# EAGLE library part LM20145MH/NOPB (library ds_ic_vreg)
LM20145/LM20145Q 5A, PowerWise® Adjustable Frequency Synchronous Buck Regulator
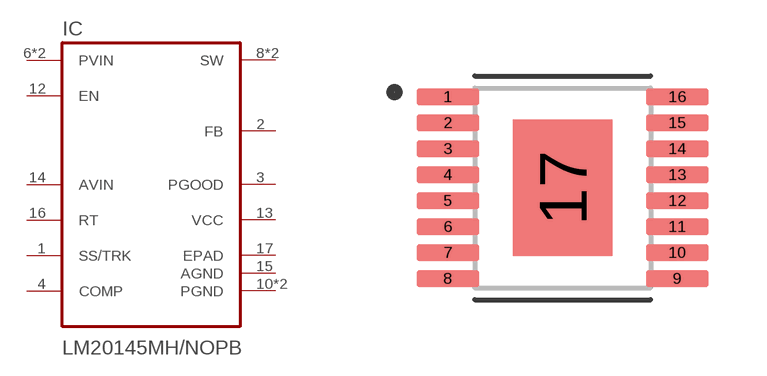
[diagram p5: symbol with the pads of POWER-TSSOP-16; footprint POWER-TSSOP-16]

Designator prefix IC

## LM20145MH/NOPB (DATASHEET: https://www.ti.com/lit/ds/symlink/lm20145.pdf?HQS=dis-dk-null-digikeymode-dsf-pf-null-wwe&ts=1760126480041&ref_url=https%253A%252F%252Fwww.ti.com%252Fgeneral%252Fdocs%252Fsuppproductinfo.tsp%253FdistId%253D10%2526gotoUrl%253Dhttps%253A%252F%252Fwww.ti.com%252Flit%252Fgpn%252Flm20145; DESCRIPTION: -40℃~+125℃@(TJ) 1 2.95V~5.5V 5A 750kHz 800mV~4.68V Adjustable Buck Buck Built-In Yes HTSSOP-16-EP DC-DC Converters ROHS; LCSC_PART: C202211; MANUFACTURER: Texas Instruments; MPN: LM20145MH/NOPB; ROHS: YES; VALUE: LM20145MH)  [POWER-TSSOP-16]
1  SS/TRK  in
2  FB  in
3  PGOOD  out
4  COMP  in
6  PVIN  in
7  PVIN  in
8  SW  out
9  SW  out
10  PGND  pwr
11  PGND  pwr
12  EN  in
13  VCC  pwr
14  AVIN  in
15  AGND  pwr
16  RT  in
17  EPAD  pwr

## Footprint POWER-TSSOP-16 (pad centres in mm)
smd 1.57 x 0.41: 1 -2.87,2.275; 2 -2.87,1.625; 3 -2.87,0.975; 4 -2.87,0.325; 5 -2.87,-0.325; 6 -2.87,-0.975; 7 -2.87,-1.625; 8 -2.87,-2.275; 9 2.87,-2.275; 10 2.87,-1.625; 11 2.87,-0.975; 12 2.87,-0.325; 13 2.87,0.325; 14 2.87,0.975; 15 2.87,1.625; 16 2.87,2.275
smd 2.48 x 3.4: 17 0,0